# EAGLE library part ESP01-SMD (library ESP8266Modules)
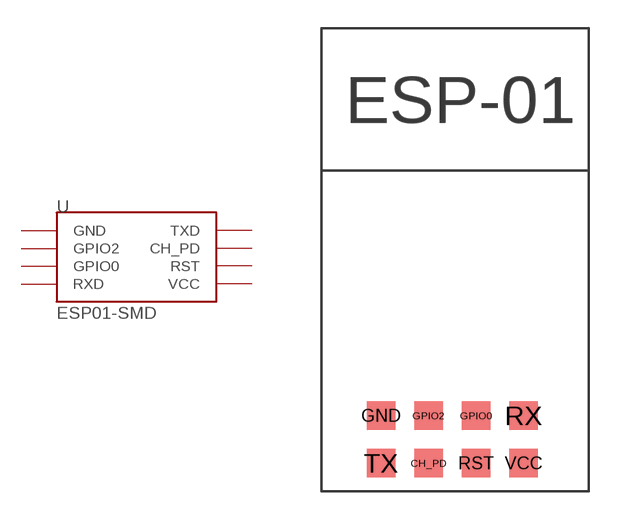
[diagram p18: symbol with the pads of ESP01_SMD; footprint ESP01_SMD]

Designator prefix -

## ESP01-SMD  [ESP01_SMD]
CH_PD  CH_PD
GND  GND
GPIO0  GPIO0
GPIO2  GPIO2
RST  RST
RX  RXD
TX  TXD
VCC  VCC

## Footprint ESP01_SMD (pad centres in mm)
smd 1.524 x 1.524: CH_PD -1.27,-8.255; GND -3.81,-5.715; GPIO0 1.27,-5.715; GPIO2 -1.27,-5.715; RST 1.27,-8.255; RX 3.81,-5.715; TX -3.81,-8.255; VCC 3.81,-8.255